# EAGLE library part HD63C09P (library 07-Retrocomputing)
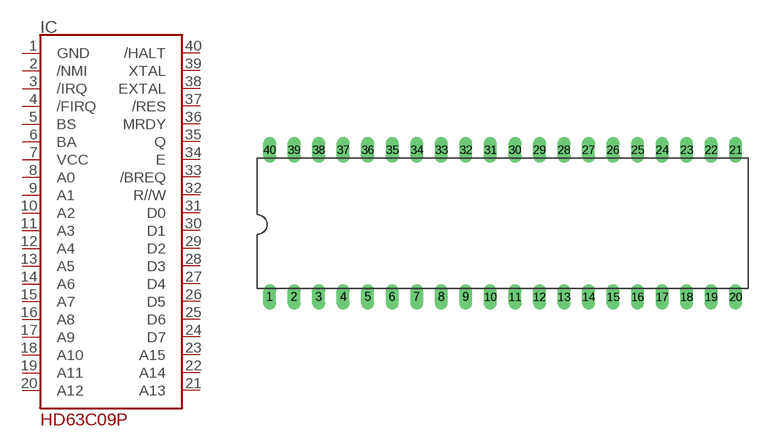
[diagram p0: symbol with the pads of DIL40; footprint DIL40]

Designator prefix IC

## HD63C09P  [DIL40]
1  GND
2  /NMI
3  /IRQ
4  /FIRQ
5  BS
6  BA
7  VCC
8  A0
9  A1
10  A2
11  A3
12  A4
13  A5
14  A6
15  A7
16  A8
17  A9
18  A10
19  A11
20  A12
21  A13
22  A14
23  A15
24  D7
25  D6
26  D5
27  D4
28  D3
29  D2
30  D1
31  D0
32  R//W
33  /BREQ
34  E
35  Q
36  MRDY
37  /RES
38  EXTAL
39  XTAL
40  /HALT

## Footprint DIL40 (pad centres in mm)
Dual In Line Package
drill 0.813 long: 1 -24.13,-7.62; 2 -21.59,-7.62; 3 -19.05,-7.62; 4 -16.51,-7.62; 5 -13.97,-7.62; 6 -11.43,-7.62; 7 -8.89,-7.62; 8 -6.35,-7.62; 9 -3.81,-7.62; 10 -1.27,-7.62; 11 1.27,-7.62; 12 3.81,-7.62; 13 6.35,-7.62; 14 8.89,-7.62; 15 11.43,-7.62; 16 13.97,-7.62; 17 16.51,-7.62; 18 19.05,-7.62; 19 21.59,-7.62; 20 24.13,-7.62; 21 24.13,7.62; 22 21.59,7.62; 23 19.05,7.62; 24 16.51,7.62; 25 13.97,7.62; 26 11.43,7.62; 27 8.89,7.62; 28 6.35,7.62; 29 3.81,7.62; 30 1.27,7.62; 31 -1.27,7.62; 32 -3.81,7.62; 33 -6.35,7.62; 34 -8.89,7.62; 35 -11.43,7.62; 36 -13.97,7.62; 37 -16.51,7.62; 38 -19.05,7.62; 39 -21.59,7.62; 40 -24.13,7.62